# Altium footprint library microphones.PcbLib: 1 footprints
Each footprint in its own frame and in the unit in brackets; x right, y up, seen from the top. Pads: shape width x height; smd on the part's side, far side on the other; paste and mask are expansions set on the pad; w line width, h text height; cw(c..) or ccw(c..) is an arc to the next point about the centre after c.
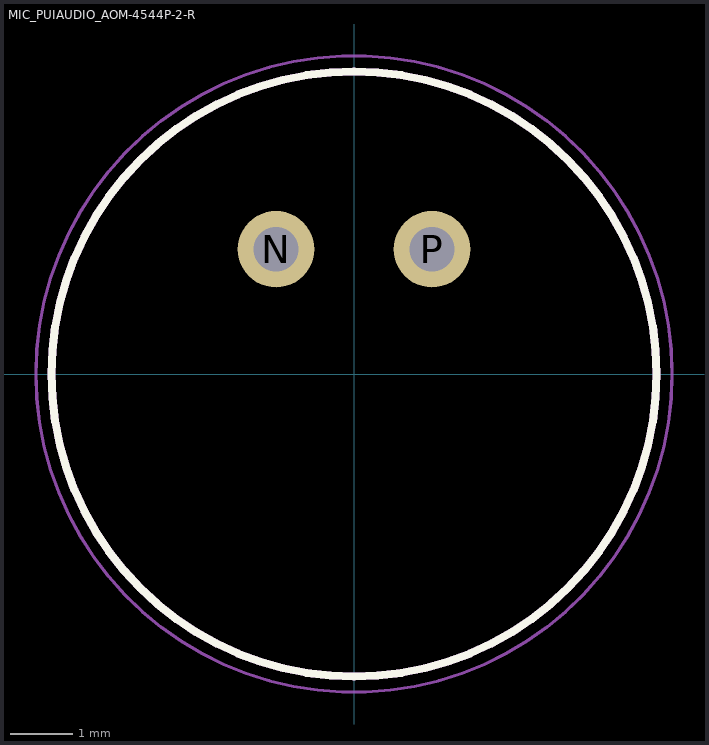
[diagram p0: the footprint, top view; thin cyan lines are the x and y axes]

## MIC_PUIAUDIO_AOM-4544P-2-R [mm]
pads (2):
  round 1.228 hole 0.72: N(-1.25,2) P(1.25,2)
Top Overlay:
  circle w0.127: c0,0 r4.85
Mechanical 13:
  circle w0.127: c0,0 r4.85
Mechanical 15:
  circle w0.05: c0,0 r5.1
3D body "aom-4544p-2-r.stp": height 5.21, standoff -4.69, extent -4.85,-4.85 4.85,4.85